# Altium footprint library Package_DIP.PcbLib: 281 footprints (part 9 of 18)
Each footprint in its own frame and in the unit in brackets; x right, y up, seen from the top. Pads: shape width x height; smd on the part's side, far side on the other; paste and mask are expansions set on the pad; w line width, h text height; cw(c..) or ccw(c..) is an arc to the next point about the centre after c.
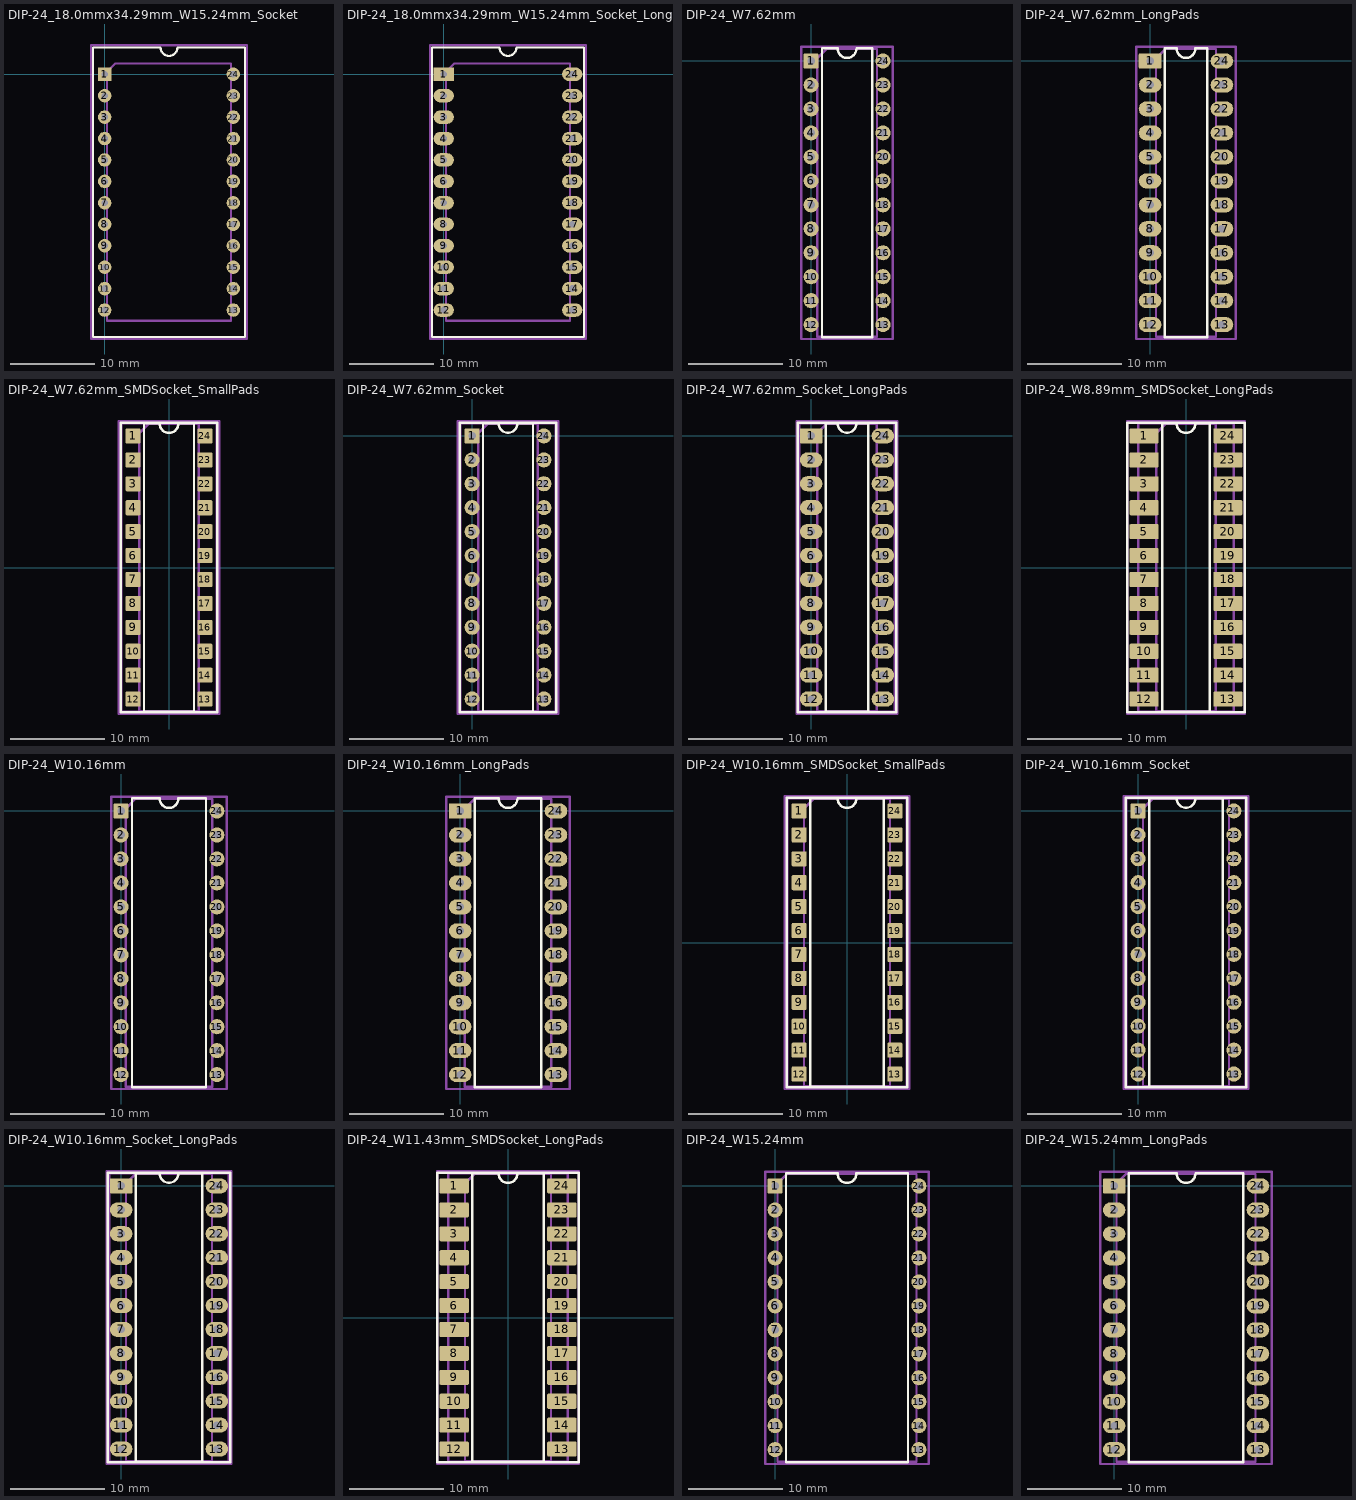
[diagram p8: the footprints below, top view; thin cyan lines are the x and y axes]

## DIP-24_18.0mmx34.29mm_W15.24mm_Socket [mm]
pads (24):
  rect 1.6x1.6 hole 0.8: 1(0,0)
  rrect100% 1.6x1.6 hole 0.8: 2(0,-2.54) 3(0,-5.08) 4(0,-7.62) 5(0,-10.16) 6(0,-12.7) 7(0,-15.24) 8(0,-17.78) 9(0,-20.32) 10(0,-22.86) 11(0,-25.4) 12(0,-27.94) 13(15.24,-27.94) 14(15.24,-25.4) 15(15.24,-22.86) 16(15.24,-20.32) 17(15.24,-17.78) 18(15.24,-15.24) 19(15.24,-12.7) 20(15.24,-10.16) 21(15.24,-7.62) 22(15.24,-5.08) 23(15.24,-2.54) 24(15.24,0)
F.SilkS:
  lines w0.254: -1.38,-31.115 16.62,-31.115 16.62,3.175 8.62,3.175 cw(c7.62,3.175) 6.62,3.175 -1.38,3.175 -1.38,-31.115
Top Assembly:
  lines w0.254: 0.255,-29.21 14.985,-29.21 14.985,1.27 1.255,1.27 0.255,0.27 0.255,-29.21
  text "'.Designator'" at 3.573,-14.81 h1
Top Courtyard:
  lines w0.254: -1.63,-31.37 16.87,-31.37 16.87,3.43 -1.63,3.43 -1.63,-31.37
Top Designator:
  text ".Designator" at 0.002,-14.478 h1.52

## DIP-24_18.0mmx34.29mm_W15.24mm_Socket_LongPads [mm]
pads (24):
  rect 2.4x1.6 hole 0.8: 1(0,0)
  rrect100% 2.4x1.6 hole 0.8: 2(0,-2.54) 3(0,-5.08) 4(0,-7.62) 5(0,-10.16) 6(0,-12.7) 7(0,-15.24) 8(0,-17.78) 9(0,-20.32) 10(0,-22.86) 11(0,-25.4) 12(0,-27.94) 13(15.24,-27.94) 14(15.24,-25.4) 15(15.24,-22.86) 16(15.24,-20.32) 17(15.24,-17.78) 18(15.24,-15.24) 19(15.24,-12.7) 20(15.24,-10.16) 21(15.24,-7.62) 22(15.24,-5.08) 23(15.24,-2.54) 24(15.24,0)
F.SilkS:
  lines w0.254: -1.38,-31.115 16.62,-31.115 16.62,3.175 8.62,3.175 cw(c7.62,3.175) 6.62,3.175 -1.38,3.175 -1.38,-31.115
Top Assembly:
  lines w0.254: 0.255,-29.21 14.985,-29.21 14.985,1.27 1.255,1.27 0.255,0.27 0.255,-29.21
  text "'.Designator'" at 3.573,-14.81 h1
Top Courtyard:
  lines w0.254: -1.63,-31.37 16.87,-31.37 16.87,3.43 -1.63,3.43 -1.63,-31.37
Top Designator:
  text ".Designator" at 0.002,-14.478 h1.52

## DIP-24_W7.62mm [mm]
pads (24):
  rrect16% 1.6x1.6 hole 0.8: 1(0,0)
  round 1.6 hole 0.8: 2(0,-2.54) 3(0,-5.08) 4(0,-7.62) 5(0,-10.16) 6(0,-12.7) 7(0,-15.24) 8(0,-17.78) 9(0,-20.32) 10(0,-22.86) 11(0,-25.4) 12(0,-27.94) 13(7.62,-27.94) 14(7.62,-25.4) 15(7.62,-22.86) 16(7.62,-20.32) 17(7.62,-17.78) 18(7.62,-15.24) 19(7.62,-12.7) 20(7.62,-10.16) 21(7.62,-7.62) 22(7.62,-5.08) 23(7.62,-2.54) 24(7.62,0)
F.SilkS:
  lines w0.254: 1.16,-29.27 6.46,-29.27 6.46,1.33 4.81,1.33 cw(c3.81,1.33) 2.81,1.33 1.16,1.33 1.16,-29.27
Top Assembly:
  lines w0.254: 0.635,-29.21 6.985,-29.21 6.985,1.27 1.635,1.27 0.635,0.27 0.635,-29.21
  text "'.Designator'" at 4.65,-18.017 h1
Top Courtyard:
  lines w0.254: -1.06,-29.46 8.67,-29.46 8.67,1.52 -1.06,1.52 -1.06,-29.46
Top Designator:
  text ".Designator" at -3.813,-14.478 h1.52

## DIP-24_W7.62mm_LongPads [mm]
pads (24):
  rrect16% 2.4x1.6 hole 0.8: 1(0,0)
  rrect100% 2.4x1.6 hole 0.8: 2(0,-2.54) 3(0,-5.08) 4(0,-7.62) 5(0,-10.16) 6(0,-12.7) 7(0,-15.24) 8(0,-17.78) 9(0,-20.32) 10(0,-22.86) 11(0,-25.4) 12(0,-27.94) 13(7.62,-27.94) 14(7.62,-25.4) 15(7.62,-22.86) 16(7.62,-20.32) 17(7.62,-17.78) 18(7.62,-15.24) 19(7.62,-12.7) 20(7.62,-10.16) 21(7.62,-7.62) 22(7.62,-5.08) 23(7.62,-2.54) 24(7.62,0)
F.SilkS:
  lines w0.254: 1.56,-29.27 6.06,-29.27 6.06,1.33 4.81,1.33 cw(c3.81,1.33) 2.81,1.33 1.56,1.33 1.56,-29.27
Top Assembly:
  lines w0.254: 0.635,-29.21 6.985,-29.21 6.985,1.27 1.635,1.27 0.635,0.27 0.635,-29.21
  text "'.Designator'" at 4.65,-18.017 h1
Top Courtyard:
  lines w0.254: -1.45,-29.46 9.07,-29.46 9.07,1.52 -1.45,1.52 -1.45,-29.46
Top Designator:
  text ".Designator" at -3.808,-14.478 h1.52

## DIP-24_W7.62mm_SMDSocket_SmallPads [mm]
pads (24):
  rrect16% 1.6x1.6 smd: 1(-3.81,13.97) 2(-3.81,11.43) 3(-3.81,8.89) 4(-3.81,6.35) 5(-3.81,3.81) 6(-3.81,1.27) 7(-3.81,-1.27) 8(-3.81,-3.81) 9(-3.81,-6.35) 10(-3.81,-8.89) 11(-3.81,-11.43) 12(-3.81,-13.97) 13(3.81,-13.97) 14(3.81,-11.43) 15(3.81,-8.89) 16(3.81,-6.35) 17(3.81,-3.81) 18(3.81,-1.27) 19(3.81,1.27) 20(3.81,3.81) 21(3.81,6.35) 22(3.81,8.89) 23(3.81,11.43) 24(3.81,13.97)
F.SilkS:
  lines w0.254: -5.14,-15.36 5.14,-15.36 5.14,15.36 -5.14,15.36 -5.14,-15.36 ; -2.65,-15.3 2.65,-15.3 2.65,15.3 1,15.3 cw(c0,15.3) -1,15.3 -2.65,15.3 -2.65,-15.3
Top Assembly:
  lines w0.254: -5.08,-15.3 5.08,-15.3 5.08,15.3 -5.08,15.3 -5.08,-15.3 ; -3.175,-15.24 3.175,-15.24 3.175,15.24 -2.175,15.24 -3.175,14.24 -3.175,-15.24
  text "'.Designator'" at 0.84,-4.047 h1
Top Courtyard:
  lines w0.254: -5.33,-15.55 5.33,-15.55 5.33,15.55 -5.33,15.55 -5.33,-15.55
Top Designator:
  text ".Designator" at -7.618,-0.508 h1.52

## DIP-24_W7.62mm_Socket [mm]
pads (24):
  rrect16% 1.6x1.6 hole 0.8: 1(0,0)
  round 1.6 hole 0.8: 2(0,-2.54) 3(0,-5.08) 4(0,-7.62) 5(0,-10.16) 6(0,-12.7) 7(0,-15.24) 8(0,-17.78) 9(0,-20.32) 10(0,-22.86) 11(0,-25.4) 12(0,-27.94) 13(7.62,-27.94) 14(7.62,-25.4) 15(7.62,-22.86) 16(7.62,-20.32) 17(7.62,-17.78) 18(7.62,-15.24) 19(7.62,-12.7) 20(7.62,-10.16) 21(7.62,-7.62) 22(7.62,-5.08) 23(7.62,-2.54) 24(7.62,0)
F.SilkS:
  lines w0.254: -1.33,-29.33 8.95,-29.33 8.95,1.39 -1.33,1.39 -1.33,-29.33 ; 1.16,-29.27 6.46,-29.27 6.46,1.33 4.81,1.33 cw(c3.81,1.33) 2.81,1.33 1.16,1.33 1.16,-29.27
Top Assembly:
  lines w0.254: -1.27,-29.27 8.89,-29.27 8.89,1.33 -1.27,1.33 -1.27,-29.27 ; 0.635,-29.21 6.985,-29.21 6.985,1.27 1.635,1.27 0.635,0.27 0.635,-29.21
  text "'.Designator'" at 4.65,-18.017 h1
Top Courtyard:
  lines w0.254: -1.52,-29.53 9.14,-29.53 9.14,1.58 -1.52,1.58 -1.52,-29.53
Top Designator:
  text ".Designator" at -3.808,-14.483 h1.52

## DIP-24_W7.62mm_Socket_LongPads [mm]
pads (24):
  rrect16% 2.4x1.6 hole 0.8: 1(0,0)
  rrect100% 2.4x1.6 hole 0.8: 2(0,-2.54) 3(0,-5.08) 4(0,-7.62) 5(0,-10.16) 6(0,-12.7) 7(0,-15.24) 8(0,-17.78) 9(0,-20.32) 10(0,-22.86) 11(0,-25.4) 12(0,-27.94) 13(7.62,-27.94) 14(7.62,-25.4) 15(7.62,-22.86) 16(7.62,-20.32) 17(7.62,-17.78) 18(7.62,-15.24) 19(7.62,-12.7) 20(7.62,-10.16) 21(7.62,-7.62) 22(7.62,-5.08) 23(7.62,-2.54) 24(7.62,0)
F.SilkS:
  lines w0.254: -1.44,-29.33 9.06,-29.33 9.06,1.39 -1.44,1.39 -1.44,-29.33 ; 1.56,-29.27 6.06,-29.27 6.06,1.33 4.81,1.33 cw(c3.81,1.33) 2.81,1.33 1.56,1.33 1.56,-29.27
Top Assembly:
  lines w0.254: -1.27,-29.27 8.89,-29.27 8.89,1.33 -1.27,1.33 -1.27,-29.27 ; 0.635,-29.21 6.985,-29.21 6.985,1.27 1.635,1.27 0.635,0.27 0.635,-29.21
  text "'.Designator'" at 4.65,-18.017 h1
Top Courtyard:
  lines w0.254: -1.52,-29.53 9.14,-29.53 9.14,1.58 -1.52,1.58 -1.52,-29.53
Top Designator:
  text ".Designator" at -3.808,-14.483 h1.52

## DIP-24_W8.89mm_SMDSocket_LongPads [mm]
pads (24):
  rrect16% 3.1x1.6 smd: 1(-4.445,13.97) 2(-4.445,11.43) 3(-4.445,8.89) 4(-4.445,6.35) 5(-4.445,3.81) 6(-4.445,1.27) 7(-4.445,-1.27) 8(-4.445,-3.81) 9(-4.445,-6.35) 10(-4.445,-8.89) 11(-4.445,-11.43) 12(-4.445,-13.97) 13(4.445,-13.97) 14(4.445,-11.43) 15(4.445,-8.89) 16(4.445,-6.35) 17(4.445,-3.81) 18(4.445,-1.27) 19(4.445,1.27) 20(4.445,3.81) 21(4.445,6.35) 22(4.445,8.89) 23(4.445,11.43) 24(4.445,13.97)
F.SilkS:
  lines w0.254: -6.235,-15.36 6.235,-15.36 6.235,15.36 -6.235,15.36 -6.235,-15.36 ; -2.535,-15.3 2.535,-15.3 2.535,15.3 1,15.3 cw(c0,15.3) -1,15.3 -2.535,15.3 -2.535,-15.3
Top Assembly:
  lines w0.254: -5.08,-15.3 5.08,-15.3 5.08,15.3 -5.08,15.3 -5.08,-15.3 ; -3.175,-15.24 3.175,-15.24 3.175,15.24 -2.175,15.24 -3.175,14.24 -3.175,-15.24
  text "'.Designator'" at 0.84,-4.047 h1
Top Courtyard:
  lines w0.254: -6.25,-15.55 6.25,-15.55 6.25,15.55 -6.25,15.55 -6.25,-15.55
Top Designator:
  text ".Designator" at -7.618,-0.508 h1.52

## DIP-24_W10.16mm [mm]
pads (24):
  rrect16% 1.6x1.6 hole 0.8: 1(0,0)
  round 1.6 hole 0.8: 2(0,-2.54) 3(0,-5.08) 4(0,-7.62) 5(0,-10.16) 6(0,-12.7) 7(0,-15.24) 8(0,-17.78) 9(0,-20.32) 10(0,-22.86) 11(0,-25.4) 12(0,-27.94) 13(10.16,-27.94) 14(10.16,-25.4) 15(10.16,-22.86) 16(10.16,-20.32) 17(10.16,-17.78) 18(10.16,-15.24) 19(10.16,-12.7) 20(10.16,-10.16) 21(10.16,-7.62) 22(10.16,-5.08) 23(10.16,-2.54) 24(10.16,0)
F.SilkS:
  lines w0.254: 1.16,-29.27 9,-29.27 9,1.33 6.08,1.33 cw(c5.08,1.33) 4.08,1.33 1.16,1.33 1.16,-29.27
Top Assembly:
  lines w0.254: 0.51,-29.21 9.65,-29.21 9.65,1.27 1.51,1.27 0.51,0.27 0.51,-29.21
  text "'.Designator'" at 5.92,-18.017 h1
Top Courtyard:
  lines w0.254: -1.05,-29.46 11.21,-29.46 11.21,1.52 -1.05,1.52 -1.05,-29.46
Top Designator:
  text ".Designator" at -2.538,-14.478 h1.52

## DIP-24_W10.16mm_LongPads [mm]
pads (24):
  rrect16% 2.4x1.6 hole 0.8: 1(0,0)
  rrect100% 2.4x1.6 hole 0.8: 2(0,-2.54) 3(0,-5.08) 4(0,-7.62) 5(0,-10.16) 6(0,-12.7) 7(0,-15.24) 8(0,-17.78) 9(0,-20.32) 10(0,-22.86) 11(0,-25.4) 12(0,-27.94) 13(10.16,-27.94) 14(10.16,-25.4) 15(10.16,-22.86) 16(10.16,-20.32) 17(10.16,-17.78) 18(10.16,-15.24) 19(10.16,-12.7) 20(10.16,-10.16) 21(10.16,-7.62) 22(10.16,-5.08) 23(10.16,-2.54) 24(10.16,0)
F.SilkS:
  lines w0.254: 1.56,-29.27 8.6,-29.27 8.6,1.33 6.08,1.33 cw(c5.08,1.33) 4.08,1.33 1.56,1.33 1.56,-29.27
Top Assembly:
  lines w0.254: 0.51,-29.21 9.65,-29.21 9.65,1.27 1.51,1.27 0.51,0.27 0.51,-29.21
  text "'.Designator'" at 5.92,-18.017 h1
Top Courtyard:
  lines w0.254: -1.46,-29.46 11.61,-29.46 11.61,1.52 -1.46,1.52 -1.46,-29.46
Top Designator:
  text ".Designator" at -2.543,-14.478 h1.52

## DIP-24_W10.16mm_SMDSocket_SmallPads [mm]
pads (24):
  rrect16% 1.6x1.6 smd: 1(-5.08,13.97) 2(-5.08,11.43) 3(-5.08,8.89) 4(-5.08,6.35) 5(-5.08,3.81) 6(-5.08,1.27) 7(-5.08,-1.27) 8(-5.08,-3.81) 9(-5.08,-6.35) 10(-5.08,-8.89) 11(-5.08,-11.43) 12(-5.08,-13.97) 13(5.08,-13.97) 14(5.08,-11.43) 15(5.08,-8.89) 16(5.08,-6.35) 17(5.08,-3.81) 18(5.08,-1.27) 19(5.08,1.27) 20(5.08,3.81) 21(5.08,6.35) 22(5.08,8.89) 23(5.08,11.43) 24(5.08,13.97)
F.SilkS:
  lines w0.254: -6.41,-15.36 6.41,-15.36 6.41,15.36 -6.41,15.36 -6.41,-15.36 ; -3.92,-15.3 3.92,-15.3 3.92,15.3 1,15.3 cw(c0,15.3) -1,15.3 -3.92,15.3 -3.92,-15.3
Top Assembly:
  lines w0.254: -6.35,-15.3 6.35,-15.3 6.35,15.3 -6.35,15.3 -6.35,-15.3 ; -4.57,-15.24 4.57,-15.24 4.57,15.24 -3.57,15.24 -4.57,14.24 -4.57,-15.24
  text "'.Designator'" at 0.84,-4.047 h1
Top Courtyard:
  lines w0.254: -6.6,-15.55 6.6,-15.55 6.6,15.55 -6.6,15.55 -6.6,-15.55
Top Designator:
  text ".Designator" at -7.618,-0.508 h1.52

## DIP-24_W10.16mm_Socket [mm]
pads (24):
  rrect16% 1.6x1.6 hole 0.8: 1(0,0)
  round 1.6 hole 0.8: 2(0,-2.54) 3(0,-5.08) 4(0,-7.62) 5(0,-10.16) 6(0,-12.7) 7(0,-15.24) 8(0,-17.78) 9(0,-20.32) 10(0,-22.86) 11(0,-25.4) 12(0,-27.94) 13(10.16,-27.94) 14(10.16,-25.4) 15(10.16,-22.86) 16(10.16,-20.32) 17(10.16,-17.78) 18(10.16,-15.24) 19(10.16,-12.7) 20(10.16,-10.16) 21(10.16,-7.62) 22(10.16,-5.08) 23(10.16,-2.54) 24(10.16,0)
F.SilkS:
  lines w0.254: -1.33,-29.33 11.49,-29.33 11.49,1.39 -1.33,1.39 -1.33,-29.33 ; 1.16,-29.27 9,-29.27 9,1.33 6.08,1.33 cw(c5.08,1.33) 4.08,1.33 1.16,1.33 1.16,-29.27
Top Assembly:
  lines w0.254: -1.27,-29.27 11.43,-29.27 11.43,1.33 -1.27,1.33 -1.27,-29.27 ; 0.51,-29.21 9.65,-29.21 9.65,1.27 1.51,1.27 0.51,0.27 0.51,-29.21
  text "'.Designator'" at 5.92,-18.017 h1
Top Courtyard:
  lines w0.254: -1.52,-29.53 11.68,-29.53 11.68,1.58 -1.52,1.58 -1.52,-29.53
Top Designator:
  text ".Designator" at -2.538,-14.483 h1.52

## DIP-24_W10.16mm_Socket_LongPads [mm]
pads (24):
  rrect16% 2.4x1.6 hole 0.8: 1(0,0)
  rrect100% 2.4x1.6 hole 0.8: 2(0,-2.54) 3(0,-5.08) 4(0,-7.62) 5(0,-10.16) 6(0,-12.7) 7(0,-15.24) 8(0,-17.78) 9(0,-20.32) 10(0,-22.86) 11(0,-25.4) 12(0,-27.94) 13(10.16,-27.94) 14(10.16,-25.4) 15(10.16,-22.86) 16(10.16,-20.32) 17(10.16,-17.78) 18(10.16,-15.24) 19(10.16,-12.7) 20(10.16,-10.16) 21(10.16,-7.62) 22(10.16,-5.08) 23(10.16,-2.54) 24(10.16,0)
F.SilkS:
  lines w0.254: -1.44,-29.33 11.6,-29.33 11.6,1.39 -1.44,1.39 -1.44,-29.33 ; 1.56,-29.27 8.6,-29.27 8.6,1.33 6.08,1.33 cw(c5.08,1.33) 4.08,1.33 1.56,1.33 1.56,-29.27
Top Assembly:
  lines w0.254: -1.27,-29.27 11.43,-29.27 11.43,1.33 -1.27,1.33 -1.27,-29.27 ; 0.51,-29.21 9.65,-29.21 9.65,1.27 1.51,1.27 0.51,0.27 0.51,-29.21
  text "'.Designator'" at 5.92,-18.017 h1
Top Courtyard:
  lines w0.254: -1.52,-29.53 11.68,-29.53 11.68,1.58 -1.52,1.58 -1.52,-29.53
Top Designator:
  text ".Designator" at -2.538,-14.483 h1.52

## DIP-24_W11.43mm_SMDSocket_LongPads [mm]
pads (24):
  rrect16% 3.1x1.6 smd: 1(-5.715,13.97) 2(-5.715,11.43) 3(-5.715,8.89) 4(-5.715,6.35) 5(-5.715,3.81) 6(-5.715,1.27) 7(-5.715,-1.27) 8(-5.715,-3.81) 9(-5.715,-6.35) 10(-5.715,-8.89) 11(-5.715,-11.43) 12(-5.715,-13.97) 13(5.715,-13.97) 14(5.715,-11.43) 15(5.715,-8.89) 16(5.715,-6.35) 17(5.715,-3.81) 18(5.715,-1.27) 19(5.715,1.27) 20(5.715,3.81) 21(5.715,6.35) 22(5.715,8.89) 23(5.715,11.43) 24(5.715,13.97)
F.SilkS:
  lines w0.254: -7.505,-15.36 7.505,-15.36 7.505,15.36 -7.505,15.36 -7.505,-15.36 ; -3.805,-15.3 3.805,-15.3 3.805,15.3 1,15.3 cw(c0,15.3) -1,15.3 -3.805,15.3 -3.805,-15.3
Top Assembly:
  lines w0.254: -6.35,-15.3 6.35,-15.3 6.35,15.3 -6.35,15.3 -6.35,-15.3 ; -4.57,-15.24 4.57,-15.24 4.57,15.24 -3.57,15.24 -4.57,14.24 -4.57,-15.24
  text "'.Designator'" at 0.84,-4.047 h1
Top Courtyard:
  lines w0.254: -7.52,-15.55 7.52,-15.55 7.52,15.55 -7.52,15.55 -7.52,-15.55
Top Designator:
  text ".Designator" at -7.618,-0.508 h1.52

## DIP-24_W15.24mm [mm]
pads (24):
  rrect16% 1.6x1.6 hole 0.8: 1(0,0)
  round 1.6 hole 0.8: 2(0,-2.54) 3(0,-5.08) 4(0,-7.62) 5(0,-10.16) 6(0,-12.7) 7(0,-15.24) 8(0,-17.78) 9(0,-20.32) 10(0,-22.86) 11(0,-25.4) 12(0,-27.94) 13(15.24,-27.94) 14(15.24,-25.4) 15(15.24,-22.86) 16(15.24,-20.32) 17(15.24,-17.78) 18(15.24,-15.24) 19(15.24,-12.7) 20(15.24,-10.16) 21(15.24,-7.62) 22(15.24,-5.08) 23(15.24,-2.54) 24(15.24,0)
F.SilkS:
  lines w0.254: 1.16,-29.27 14.08,-29.27 14.08,1.33 8.62,1.33 cw(c7.62,1.33) 6.62,1.33 1.16,1.33 1.16,-29.27
Top Assembly:
  lines w0.254: 0.255,-29.21 14.985,-29.21 14.985,1.27 1.255,1.27 0.255,0.27 0.255,-29.21
  text "'.Designator'" at 8.46,-18.017 h1
Top Courtyard:
  lines w0.254: -1.05,-29.46 16.29,-29.46 16.29,1.52 -1.05,1.52 -1.05,-29.46
Top Designator:
  text ".Designator" at 0.002,-14.478 h1.52

## DIP-24_W15.24mm_LongPads [mm]
pads (24):
  rrect16% 2.4x1.6 hole 0.8: 1(0,0)
  rrect100% 2.4x1.6 hole 0.8: 2(0,-2.54) 3(0,-5.08) 4(0,-7.62) 5(0,-10.16) 6(0,-12.7) 7(0,-15.24) 8(0,-17.78) 9(0,-20.32) 10(0,-22.86) 11(0,-25.4) 12(0,-27.94) 13(15.24,-27.94) 14(15.24,-25.4) 15(15.24,-22.86) 16(15.24,-20.32) 17(15.24,-17.78) 18(15.24,-15.24) 19(15.24,-12.7) 20(15.24,-10.16) 21(15.24,-7.62) 22(15.24,-5.08) 23(15.24,-2.54) 24(15.24,0)
F.SilkS:
  lines w0.254: 1.56,-29.27 13.68,-29.27 13.68,1.33 8.62,1.33 cw(c7.62,1.33) 6.62,1.33 1.56,1.33 1.56,-29.27
Top Assembly:
  lines w0.254: 0.255,-29.21 14.985,-29.21 14.985,1.27 1.255,1.27 0.255,0.27 0.255,-29.21
  text "'.Designator'" at 8.46,-18.017 h1
Top Courtyard:
  lines w0.254: -1.46,-29.46 16.69,-29.46 16.69,1.52 -1.46,1.52 -1.46,-29.46
Top Designator:
  text ".Designator" at -0.003,-14.478 h1.52